# Altium footprint library Marvell.PcbLib: 1 footprints
Each footprint in its own frame and in the unit in brackets; x right, y up, seen from the top. Pads: shape width x height; smd on the part's side, far side on the other; paste and mask are expansions set on the pad; w line width, h text height; cw(c..) or ccw(c..) is an arc to the next point about the centre after c.
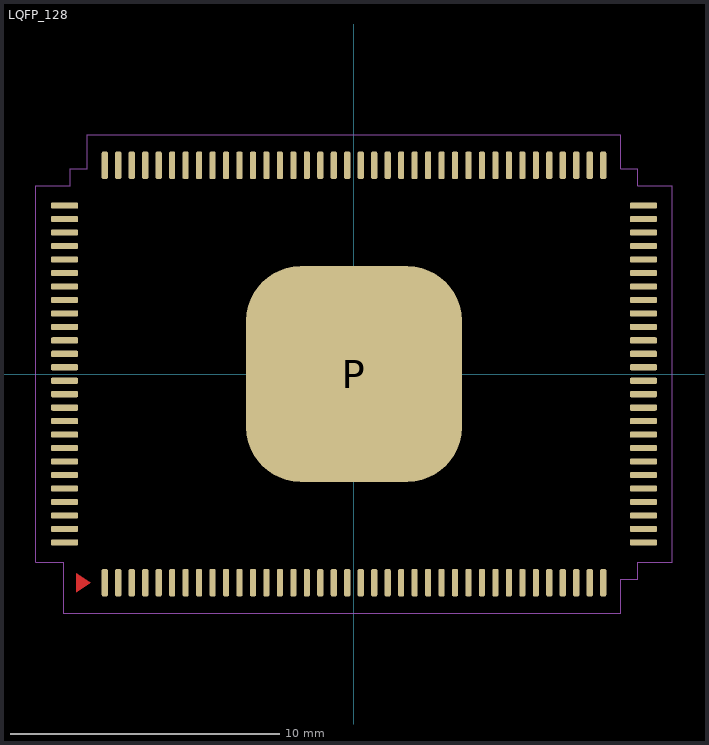
[diagram p0: the footprint, top view; thin cyan lines are the x and y axes]

## LQFP_128 [mil]
height 55.12
pads (129):
  rrect50% 9x40 smd mask+2: 1(-364.17,-305) 2(-344.49,-305) 3(-324.8,-305) 4(-305.12,-305) 5(-285.43,-305) 6(-265.75,-305) 7(-246.06,-305) 8(-226.38,-305) 9(-206.69,-305) 10(-187.01,-305) 11(-167.32,-305) 12(-147.64,-305) 13(-127.95,-305) 14(-108.27,-305) 15(-88.58,-305) 16(-68.9,-305) 17(-49.21,-305) 18(-29.53,-305) 19(-9.84,-305) 20(9.84,-305) 21(29.53,-305) 22(49.21,-305) 23(68.9,-305) 24(88.58,-305) 25(108.27,-305) 26(127.95,-305) 27(147.64,-305) 28(167.32,-305) 29(187.01,-305) 30(206.69,-305) 31(226.38,-305) 32(246.06,-305) 33(265.75,-305) 34(285.43,-305) 35(305.12,-305) 36(324.8,-305) 37(344.49,-305) 38(364.17,-305) 65(364.17,305) 66(344.49,305) 67(324.8,305) 68(305.12,305) 69(285.43,305) 70(265.75,305) 71(246.06,305) 72(226.38,305) 73(206.69,305) 74(187.01,305) 75(167.32,305) 76(147.64,305) 77(127.95,305) 78(108.27,305) 79(88.58,305) 80(68.9,305) 81(49.21,305) 82(29.53,305) 83(9.84,305) 84(-9.84,305) 85(-29.53,305) 86(-49.21,305) 87(-68.9,305) 88(-88.58,305) 89(-108.27,305) 90(-127.95,305) 91(-147.64,305) 92(-167.32,305) 93(-187.01,305) 94(-206.69,305) 95(-226.38,305) 96(-246.06,305) 97(-265.75,305) 98(-285.43,305) 99(-305.12,305) 100(-324.8,305) 101(-344.49,305) 102(-364.17,305)
  rrect50% 40x9 smd mask+2: 39(423,-246.06) 40(423,-226.38) 41(423,-206.69) 42(423,-187.01) 43(423,-167.32) 44(423,-147.64) 45(423,-127.95) 46(423,-108.27) 47(423,-88.58) 48(423,-68.9) 49(423,-49.21) 50(423,-29.53) 51(423,-9.84) 52(423,9.84) 53(423,29.53) 54(423,49.21) 55(423,68.9) 56(423,88.58) 57(423,108.27) 58(423,127.95) 59(423,147.64) 60(423,167.32) 61(423,187.01) 62(423,206.69) 63(423,226.38) 64(423,246.06) 103(-423,246.06) 104(-423,226.38) 105(-423,206.69) 106(-423,187.01) 107(-423,167.32) 108(-423,147.64) 109(-423,127.95) 110(-423,108.27) 111(-423,88.58) 112(-423,68.9) 113(-423,49.21) 114(-423,29.53) 115(-423,9.84) 116(-423,-9.84) 117(-423,-29.53) 118(-423,-49.21) 119(-423,-68.9) 120(-423,-88.58) 121(-423,-108.27) 122(-423,-127.95) 123(-423,-147.64) 124(-423,-167.32) 125(-423,-187.01) 126(-423,-206.69) 127(-423,-226.38) 128(-423,-246.06)
  rrect50% 314.96x314.96 smd paste-800 mask+2: P(0,0)
Top Layer:
  region: -385,-305 -406.21,-290.86 -406.21,-319.14
Top Paste:
  rectangle: -20,-20 20,20
  rectangle: 30,-20 70,20
  rectangle: 30,-70 70,-30
  rectangle: -20,-70 20,-30
  region: 70,30 70,70 30,70 30,30
  region: -30,70 -70,70 -70,30 -30,30
  region: -70,-30 -70,-70 -30,-70 -30,-30
  region: 20,70 -20,70 -20,30 20,30
  region: -70,20 -70,-20 -30,-20 -30,20
  region: 120,30 120,70 80,70 80,30
  rectangle: 80,-70 120,-30
  rectangle: 80,-20 120,20
  region: 120,80 120,120 80,120 80,80
  region: 20,120 -20,120 -20,80 20,80
  region: -30,120 -70,120 -70,80 -30,80
  region: 70,80 70,120 30,120 30,80
  rectangle: 80,-120 120,-80
  region: -70,-80 -70,-120 -30,-120 -30,-80
  rectangle: -20,-120 20,-80
  rectangle: 30,-120 70,-80
  region: -120,-80 -120,-120 -80,-120 -80,-80
  region: -80,120 -120,120 -120,80 -80,80
  region: -120,20 -120,-20 -80,-20 -80,20
  region: -120,-30 -120,-70 -80,-70 -80,-30
  region: -80,70 -120,70 -120,30 -80,30
  region: 70,130 70,155 30,155 30,130
  region: -30,155 -70,155 -70,130 -30,130
  region: 20,155 -20,155 -20,130 20,130
  region: -155,20 -155,-20 -130,-20 -130,20
  region: -155,-30 -155,-70 -130,-70 -130,-30
  region: -130,70 -155,70 -155,30 -130,30
  rectangle: -20,-155 20,-130
  rectangle: 30,-155 70,-130
  region: -70,-130 -70,-155 -30,-155 -30,-130
  region: 155,-20 155,20 130,20 130,-20
  region: 155,30 155,70 130,70 130,30
  rectangle: 130,-70 155,-30
Top Component Outline:
  lines w1: -465,-275 -465,275 -415,275 -415,300 -390,300 -390,350 390,350 390,300 415,300 415,275 465,275 465,-275 415,-275 415,-300 390,-300 390,-350 -425,-350 -425,-275 -465,-275
3D body: height 30, standoff 24, extent 390.96,-33.53 407.96,-25.53
3D body: height 30, standoff 0, extent 407.96,-33.53 417.96,-25.53
3D body: height 6, standoff 0, extent 417.96,-33.53 432.96,-25.53
3D body: height 30, standoff 24, extent 390.96,-53.21 407.96,-45.21
3D body: height 30, standoff 0, extent 407.96,-53.21 417.96,-45.21
3D body: height 6, standoff 0, extent 417.96,-53.21 432.96,-45.21
3D body: height 30, standoff 24, extent 390.96,-72.9 407.96,-64.9
3D body: height 30, standoff 0, extent 407.96,-72.9 417.96,-64.9
3D body: height 6, standoff 0, extent 417.96,-72.9 432.96,-64.9
3D body: height 30, standoff 24, extent 390.96,-92.58 407.96,-84.58
3D body: height 30, standoff 0, extent 407.96,-92.58 417.96,-84.58
3D body: height 6, standoff 0, extent 417.96,-92.58 432.96,-84.58
3D body: height 30, standoff 24, extent 390.96,84.58 407.96,92.58
3D body: height 30, standoff 0, extent 407.96,84.58 417.96,92.58
3D body: height 6, standoff 0, extent 417.96,84.58 432.96,92.58
3D body: height 30, standoff 24, extent 390.96,64.9 407.96,72.9
3D body: height 30, standoff 0, extent 407.96,64.9 417.96,72.9
3D body: height 6, standoff 0, extent 417.96,64.9 432.96,72.9
3D body: height 30, standoff 24, extent 390.96,45.21 407.96,53.21
3D body: height 30, standoff 0, extent 407.96,45.21 417.96,53.21
3D body: height 6, standoff 0, extent 417.96,45.21 432.96,53.21
3D body: height 30, standoff 24, extent 390.96,25.53 407.96,33.53
3D body: height 30, standoff 0, extent 407.96,25.53 417.96,33.53
3D body: height 6, standoff 0, extent 417.96,25.53 432.96,33.53
3D body: height 30, standoff 24, extent 390.96,5.84 407.96,13.84
3D body: height 30, standoff 0, extent 407.96,5.84 417.96,13.84
3D body: height 6, standoff 0, extent 417.96,5.84 432.96,13.84
3D body: height 6, standoff 0, extent 417.96,-13.84 432.96,-5.84
3D body: height 30, standoff 0, extent 407.96,-13.84 417.96,-5.84
3D body: height 30, standoff 24, extent 390.96,-13.84 407.96,-5.84
3D body: height 30, standoff 24, extent 390.96,202.69 407.96,210.69
3D body: height 30, standoff 0, extent 407.96,202.69 417.96,210.69
3D body: height 6, standoff 0, extent 417.96,202.69 432.96,210.69
3D body: height 30, standoff 24, extent 390.96,183.01 407.96,191.01
3D body: height 30, standoff 0, extent 407.96,183.01 417.96,191.01
3D body: height 6, standoff 0, extent 417.96,183.01 432.96,191.01
3D body: height 30, standoff 24, extent 390.96,163.32 407.96,171.32
3D body: height 30, standoff 0, extent 407.96,163.32 417.96,171.32
3D body: height 6, standoff 0, extent 417.96,163.32 432.96,171.32
3D body: height 30, standoff 24, extent 390.96,143.64 407.96,151.64
3D body: height 30, standoff 0, extent 407.96,143.64 417.96,151.64
3D body: height 6, standoff 0, extent 417.96,143.64 432.96,151.64
3D body: height 30, standoff 24, extent 390.96,123.95 407.96,131.95
3D body: height 30, standoff 0, extent 407.96,123.95 417.96,131.95
3D body: height 6, standoff 0, extent 417.96,123.95 432.96,131.95
3D body: height 6, standoff 0, extent 417.96,104.27 432.96,112.27
3D body: height 30, standoff 0, extent 407.96,104.27 417.96,112.27
3D body: height 30, standoff 24, extent 390.96,104.27 407.96,112.27
3D body: height 6, standoff 0, extent 417.96,222.38 432.96,230.38
3D body: height 30, standoff 0, extent 407.96,222.38 417.96,230.38
3D body: height 30, standoff 24, extent 390.96,222.38 407.96,230.38
3D body: height 6, standoff 0, extent 417.96,242.06 432.96,250.06
3D body: height 30, standoff 0, extent 407.96,242.06 417.96,250.06
3D body: height 30, standoff 24, extent 390.96,242.06 407.96,250.06
3D body: height 30, standoff 24, extent 390.96,-151.64 407.96,-143.64
3D body: height 30, standoff 0, extent 407.96,-151.64 417.96,-143.64
3D body: height 6, standoff 0, extent 417.96,-151.64 432.96,-143.64
3D body: height 6, standoff 0, extent 417.96,-131.95 432.96,-123.95
3D body: height 30, standoff 0, extent 407.96,-131.95 417.96,-123.95
3D body: height 30, standoff 24, extent 390.96,-131.95 407.96,-123.95
3D body: height 6, standoff 0, extent 417.96,-112.27 432.96,-104.27
3D body: height 30, standoff 0, extent 407.96,-112.27 417.96,-104.27
3D body: height 30, standoff 24, extent 390.96,-112.27 407.96,-104.27
3D body: height 6, standoff 0, extent 417.96,-230.38 432.96,-222.38
3D body: height 30, standoff 0, extent 407.96,-230.38 417.96,-222.38
3D body: height 30, standoff 24, extent 390.96,-230.38 407.96,-222.38
3D body: height 6, standoff 0, extent 417.96,-210.69 432.96,-202.69
3D body: height 30, standoff 0, extent 407.96,-210.69 417.96,-202.69
3D body: height 30, standoff 24, extent 390.96,-210.69 407.96,-202.69
3D body: height 6, standoff 0, extent 417.96,-191.01 432.96,-183.01
3D body: height 30, standoff 0, extent 407.96,-191.01 417.96,-183.01
3D body: height 30, standoff 24, extent 390.96,-191.01 407.96,-183.01
3D body: height 6, standoff 0, extent 417.96,-171.32 432.96,-163.32
3D body: height 30, standoff 0, extent 407.96,-171.32 417.96,-163.32
3D body: height 30, standoff 24, extent 390.96,-171.32 407.96,-163.32
3D body: height 30, standoff 24, extent 390.96,-250.06 407.96,-242.06
3D body: height 30, standoff 0, extent 407.96,-250.06 417.96,-242.06
3D body: height 6, standoff 0, extent 417.96,-250.06 432.96,-242.06
3D body: height 6, standoff 0, extent -432.96,242.06 -417.96,250.06
3D body: height 30, standoff 0, extent -417.96,242.06 -407.96,250.06
3D body: height 30, standoff 24, extent -407.96,242.06 -390.96,250.06
3D body: height 30, standoff 24, extent -407.96,163.32 -390.96,171.32
3D body: height 30, standoff 0, extent -417.96,163.32 -407.96,171.32
3D body: height 6, standoff 0, extent -432.96,163.32 -417.96,171.32
3D body: height 30, standoff 24, extent -407.96,183.01 -390.96,191.01
3D body: height 30, standoff 0, extent -417.96,183.01 -407.96,191.01
3D body: height 6, standoff 0, extent -432.96,183.01 -417.96,191.01
3D body: height 30, standoff 24, extent -407.96,202.69 -390.96,210.69
3D body: height 30, standoff 0, extent -417.96,202.69 -407.96,210.69
3D body: height 6, standoff 0, extent -432.96,202.69 -417.96,210.69
3D body: height 30, standoff 24, extent -407.96,222.38 -390.96,230.38
3D body: height 30, standoff 0, extent -417.96,222.38 -407.96,230.38
3D body: height 6, standoff 0, extent -432.96,222.38 -417.96,230.38
3D body: height 30, standoff 24, extent -407.96,104.27 -390.96,112.27
3D body: height 30, standoff 0, extent -417.96,104.27 -407.96,112.27
3D body: height 6, standoff 0, extent -432.96,104.27 -417.96,112.27
3D body: height 30, standoff 24, extent -407.96,123.95 -390.96,131.95
3D body: height 30, standoff 0, extent -417.96,123.95 -407.96,131.95
3D body: height 6, standoff 0, extent -432.96,123.95 -417.96,131.95
3D body: height 6, standoff 0, extent -432.96,143.64 -417.96,151.64
3D body: height 30, standoff 0, extent -417.96,143.64 -407.96,151.64
3D body: height 30, standoff 24, extent -407.96,143.64 -390.96,151.64
3D body: height 30, standoff 24, extent -407.96,-250.06 -390.96,-242.06
3D body: height 30, standoff 0, extent -417.96,-250.06 -407.96,-242.06
3D body: height 6, standoff 0, extent -432.96,-250.06 -417.96,-242.06
3D body: height 30, standoff 24, extent -407.96,-230.38 -390.96,-222.38
3D body: height 30, standoff 0, extent -417.96,-230.38 -407.96,-222.38
3D body: height 6, standoff 0, extent -432.96,-230.38 -417.96,-222.38
3D body: height 30, standoff 24, extent -407.96,-112.27 -390.96,-104.27
3D body: height 30, standoff 0, extent -417.96,-112.27 -407.96,-104.27
3D body: height 6, standoff 0, extent -432.96,-112.27 -417.96,-104.27
3D body: height 6, standoff 0, extent -432.96,-131.95 -417.96,-123.95
3D body: height 30, standoff 0, extent -417.96,-131.95 -407.96,-123.95
3D body: height 30, standoff 24, extent -407.96,-131.95 -390.96,-123.95
3D body: height 6, standoff 0, extent -432.96,-151.64 -417.96,-143.64
3D body: height 30, standoff 0, extent -417.96,-151.64 -407.96,-143.64
3D body: height 30, standoff 24, extent -407.96,-151.64 -390.96,-143.64
3D body: height 6, standoff 0, extent -432.96,-171.32 -417.96,-163.32
3D body: height 30, standoff 0, extent -417.96,-171.32 -407.96,-163.32
3D body: height 30, standoff 24, extent -407.96,-171.32 -390.96,-163.32
3D body: height 6, standoff 0, extent -432.96,-191.01 -417.96,-183.01
3D body: height 30, standoff 0, extent -417.96,-191.01 -407.96,-183.01
3D body: height 30, standoff 24, extent -407.96,-191.01 -390.96,-183.01
3D body: height 6, standoff 0, extent -432.96,-210.69 -417.96,-202.69
3D body: height 30, standoff 0, extent -417.96,-210.69 -407.96,-202.69
3D body: height 30, standoff 24, extent -407.96,-210.69 -390.96,-202.69
3D body: height 30, standoff 24, extent -407.96,5.84 -390.96,13.84
3D body: height 30, standoff 0, extent -417.96,5.84 -407.96,13.84
3D body: height 6, standoff 0, extent -432.96,5.84 -417.96,13.84
3D body: height 6, standoff 0, extent -432.96,-13.84 -417.96,-5.84
3D body: height 30, standoff 0, extent -417.96,-13.84 -407.96,-5.84
3D body: height 30, standoff 24, extent -407.96,-13.84 -390.96,-5.84
3D body: height 6, standoff 0, extent -432.96,-33.53 -417.96,-25.53
3D body: height 30, standoff 0, extent -417.96,-33.53 -407.96,-25.53
3D body: height 30, standoff 24, extent -407.96,-33.53 -390.96,-25.53
3D body: height 6, standoff 0, extent -432.96,-53.21 -417.96,-45.21
3D body: height 30, standoff 0, extent -417.96,-53.21 -407.96,-45.21
3D body: height 30, standoff 24, extent -407.96,-53.21 -390.96,-45.21
3D body: height 6, standoff 0, extent -432.96,-72.9 -417.96,-64.9
3D body: height 30, standoff 0, extent -417.96,-72.9 -407.96,-64.9
3D body: height 30, standoff 24, extent -407.96,-72.9 -390.96,-64.9
3D body: height 6, standoff 0, extent -432.96,-92.58 -417.96,-84.58
3D body: height 30, standoff 0, extent -417.96,-92.58 -407.96,-84.58
3D body: height 30, standoff 24, extent -407.96,-92.58 -390.96,-84.58
3D body: height 6, standoff 0, extent -432.96,84.58 -417.96,92.58
3D body: height 30, standoff 0, extent -417.96,84.58 -407.96,92.58
3D body: height 30, standoff 24, extent -407.96,84.58 -390.96,92.58
3D body: height 6, standoff 0, extent -432.96,64.9 -417.96,72.9
3D body: height 30, standoff 0, extent -417.96,64.9 -407.96,72.9
3D body: height 30, standoff 24, extent -407.96,64.9 -390.96,72.9
3D body: height 6, standoff 0, extent -432.96,45.21 -417.96,53.21
3D body: height 30, standoff 0, extent -417.96,45.21 -407.96,53.21
3D body: height 30, standoff 24, extent -407.96,45.21 -390.96,53.21
3D body: height 6, standoff 0, extent -432.96,25.53 -417.96,33.53
3D body: height 30, standoff 0, extent -417.96,25.53 -407.96,33.53
3D body: height 30, standoff 24, extent -407.96,25.53 -390.96,33.53
3D body: height 30, standoff 24, extent 360.17,272.96 368.17,289.96
3D body: height 30, standoff 0, extent 360.17,289.96 368.17,299.96
3D body: height 6, standoff 0, extent 360.17,299.96 368.17,314.96
3D body: height 6, standoff 0, extent 340.49,299.96 348.49,314.96
3D body: height 30, standoff 0, extent 340.49,289.96 348.49,299.96
3D body: height 30, standoff 24, extent 340.49,272.96 348.49,289.96
3D body: height 6, standoff 0, extent 320.8,299.96 328.8,314.96
3D body: height 30, standoff 0, extent 320.8,289.96 328.8,299.96
3D body: height 30, standoff 24, extent 320.8,272.96 328.8,289.96
3D body: height 6, standoff 0, extent 301.12,299.96 309.12,314.96
3D body: height 30, standoff 0, extent 301.12,289.96 309.12,299.96
3D body: height 30, standoff 24, extent 301.12,272.96 309.12,289.96
3D body: height 6, standoff 0, extent 281.43,299.96 289.43,314.96
3D body: height 30, standoff 0, extent 281.43,289.96 289.43,299.96
3D body: height 30, standoff 24, extent 281.43,272.96 289.43,289.96
3D body: height 6, standoff 0, extent 261.75,299.96 269.75,314.96
3D body: height 30, standoff 0, extent 261.75,289.96 269.75,299.96
3D body: height 30, standoff 24, extent 261.75,272.96 269.75,289.96
3D body: height 30, standoff 24, extent 143.64,272.96 151.64,289.96
3D body: height 30, standoff 0, extent 143.64,289.96 151.64,299.96
3D body: height 6, standoff 0, extent 143.64,299.96 151.64,314.96
3D body: height 30, standoff 24, extent 163.32,272.96 171.32,289.96
3D body: height 30, standoff 0, extent 163.32,289.96 171.32,299.96
3D body: height 6, standoff 0, extent 163.32,299.96 171.32,314.96
3D body: height 30, standoff 24, extent 183.01,272.96 191.01,289.96
3D body: height 30, standoff 0, extent 183.01,289.96 191.01,299.96
3D body: height 6, standoff 0, extent 183.01,299.96 191.01,314.96
3D body: height 30, standoff 24, extent 202.69,272.96 210.69,289.96
3D body: height 30, standoff 0, extent 202.69,289.96 210.69,299.96
3D body: height 6, standoff 0, extent 202.69,299.96 210.69,314.96
3D body: height 30, standoff 24, extent 222.38,272.96 230.38,289.96
3D body: height 30, standoff 0, extent 222.38,289.96 230.38,299.96
3D body: height 6, standoff 0, extent 222.38,299.96 230.38,314.96
3D body: height 6, standoff 0, extent 242.06,299.96 250.06,314.96
3D body: height 30, standoff 0, extent 242.06,289.96 250.06,299.96
3D body: height 30, standoff 24, extent 242.06,272.96 250.06,289.96
3D body: height 30, standoff 24, extent 25.53,272.96 33.53,289.96
3D body: height 30, standoff 0, extent 25.53,289.96 33.53,299.96
3D body: height 6, standoff 0, extent 25.53,299.96 33.53,314.96
3D body: height 30, standoff 24, extent 45.21,272.96 53.21,289.96
3D body: height 30, standoff 0, extent 45.21,289.96 53.21,299.96
3D body: height 6, standoff 0, extent 45.21,299.96 53.21,314.96
3D body: height 30, standoff 24, extent 64.9,272.96 72.9,289.96
3D body: height 30, standoff 0, extent 64.9,289.96 72.9,299.96
3D body: height 6, standoff 0, extent 64.9,299.96 72.9,314.96
3D body: height 30, standoff 24, extent 84.58,272.96 92.58,289.96
3D body: height 30, standoff 0, extent 84.58,289.96 92.58,299.96
3D body: height 6, standoff 0, extent 84.58,299.96 92.58,314.96
3D body: height 30, standoff 24, extent 104.27,272.96 112.27,289.96
3D body: height 30, standoff 0, extent 104.27,289.96 112.27,299.96
3D body: height 6, standoff 0, extent 104.27,299.96 112.27,314.96
3D body: height 6, standoff 0, extent 123.95,299.96 131.95,314.96
3D body: height 30, standoff 0, extent 123.95,289.96 131.95,299.96
3D body: height 30, standoff 24, extent 123.95,272.96 131.95,289.96
3D body: height 30, standoff 24, extent -92.58,272.96 -84.58,289.96
3D body: height 30, standoff 0, extent -92.58,289.96 -84.58,299.96
3D body: height 6, standoff 0, extent -92.58,299.96 -84.58,314.96
3D body: height 30, standoff 24, extent -72.9,272.96 -64.9,289.96
3D body: height 30, standoff 0, extent -72.9,289.96 -64.9,299.96
3D body: height 6, standoff 0, extent -72.9,299.96 -64.9,314.96
3D body: height 30, standoff 24, extent -53.21,272.96 -45.21,289.96
3D body: height 30, standoff 0, extent -53.21,289.96 -45.21,299.96
3D body: height 6, standoff 0, extent -53.21,299.96 -45.21,314.96
3D body: height 30, standoff 24, extent -33.53,272.96 -25.53,289.96
3D body: height 30, standoff 0, extent -33.53,289.96 -25.53,299.96
3D body: height 6, standoff 0, extent -33.53,299.96 -25.53,314.96
3D body: height 30, standoff 24, extent -13.84,272.96 -5.84,289.96
3D body: height 30, standoff 0, extent -13.84,289.96 -5.84,299.96
3D body: height 6, standoff 0, extent -13.84,299.96 -5.84,314.96
3D body: height 6, standoff 0, extent 5.84,299.96 13.84,314.96
3D body: height 30, standoff 0, extent 5.84,289.96 13.84,299.96
3D body: height 30, standoff 24, extent 5.84,272.96 13.84,289.96
3D body: height 30, standoff 24, extent -210.69,272.96 -202.69,289.96
3D body: height 30, standoff 0, extent -210.69,289.96 -202.69,299.96
3D body: height 6, standoff 0, extent -210.69,299.96 -202.69,314.96
3D body: height 30, standoff 24, extent -191.01,272.96 -183.01,289.96
3D body: height 30, standoff 0, extent -191.01,289.96 -183.01,299.96
3D body: height 6, standoff 0, extent -191.01,299.96 -183.01,314.96
3D body: height 30, standoff 24, extent -171.32,272.96 -163.32,289.96
3D body: height 30, standoff 0, extent -171.32,289.96 -163.32,299.96
3D body: height 6, standoff 0, extent -171.32,299.96 -163.32,314.96
3D body: height 30, standoff 24, extent -151.64,272.96 -143.64,289.96
3D body: height 30, standoff 0, extent -151.64,289.96 -143.64,299.96
3D body: height 6, standoff 0, extent -151.64,299.96 -143.64,314.96
3D body: height 30, standoff 24, extent -131.95,272.96 -123.95,289.96
3D body: height 30, standoff 0, extent -131.95,289.96 -123.95,299.96
3D body: height 6, standoff 0, extent -131.95,299.96 -123.95,314.96
3D body: height 6, standoff 0, extent -112.27,299.96 -104.27,314.96
3D body: height 30, standoff 0, extent -112.27,289.96 -104.27,299.96
3D body: height 30, standoff 24, extent -112.27,272.96 -104.27,289.96
3D body: height 30, standoff 24, extent -328.8,272.96 -320.8,289.96
3D body: height 30, standoff 0, extent -328.8,289.96 -320.8,299.96
3D body: height 6, standoff 0, extent -328.8,299.96 -320.8,314.96
3D body: height 30, standoff 24, extent -309.12,272.96 -301.12,289.96
3D body: height 30, standoff 0, extent -309.12,289.96 -301.12,299.96
3D body: height 6, standoff 0, extent -309.12,299.96 -301.12,314.96
3D body: height 30, standoff 24, extent -289.43,272.96 -281.43,289.96
3D body: height 30, standoff 0, extent -289.43,289.96 -281.43,299.96
3D body: height 6, standoff 0, extent -289.43,299.96 -281.43,314.96
3D body: height 30, standoff 24, extent -269.75,272.96 -261.75,289.96
3D body: height 30, standoff 0, extent -269.75,289.96 -261.75,299.96
3D body: height 6, standoff 0, extent -269.75,299.96 -261.75,314.96
3D body: height 30, standoff 24, extent -250.06,272.96 -242.06,289.96
3D body: height 30, standoff 0, extent -250.06,289.96 -242.06,299.96
3D body: height 6, standoff 0, extent -250.06,299.96 -242.06,314.96
3D body: height 6, standoff 0, extent -230.38,299.96 -222.38,314.96
3D body: height 30, standoff 0, extent -230.38,289.96 -222.38,299.96
3D body: height 30, standoff 24, extent -230.38,272.96 -222.38,289.96
3D body: height 6, standoff 0, extent -348.49,299.96 -340.49,314.96
3D body: height 30, standoff 0, extent -348.49,289.96 -340.49,299.96
3D body: height 30, standoff 24, extent -348.49,272.96 -340.49,289.96
3D body: height 6, standoff 0, extent -368.17,299.96 -360.17,314.96
3D body: height 30, standoff 0, extent -368.17,289.96 -360.17,299.96
3D body: height 30, standoff 24, extent -368.17,272.96 -360.17,289.96
3D body: height 30, standoff 24, extent 360.17,-289.96 368.17,-272.96
3D body: height 30, standoff 0, extent 360.17,-299.96 368.17,-289.96
3D body: height 6, standoff 0, extent 360.17,-314.96 368.17,-299.96
3D body: height 30, standoff 24, extent 340.49,-289.96 348.49,-272.96
3D body: height 30, standoff 0, extent 340.49,-299.96 348.49,-289.96
3D body: height 6, standoff 0, extent 340.49,-314.96 348.49,-299.96
3D body: height 30, standoff 24, extent 222.38,-289.96 230.38,-272.96
3D body: height 30, standoff 0, extent 222.38,-299.96 230.38,-289.96
3D body: height 6, standoff 0, extent 222.38,-314.96 230.38,-299.96
3D body: height 6, standoff 0, extent 242.06,-314.96 250.06,-299.96
3D body: height 30, standoff 0, extent 242.06,-299.96 250.06,-289.96
3D body: height 30, standoff 24, extent 242.06,-289.96 250.06,-272.96
3D body: height 6, standoff 0, extent 261.75,-314.96 269.75,-299.96
3D body: height 30, standoff 0, extent 261.75,-299.96 269.75,-289.96
3D body: height 30, standoff 24, extent 261.75,-289.96 269.75,-272.96
3D body: height 6, standoff 0, extent 281.43,-314.96 289.43,-299.96
3D body: height 30, standoff 0, extent 281.43,-299.96 289.43,-289.96
3D body: height 30, standoff 24, extent 281.43,-289.96 289.43,-272.96
3D body: height 6, standoff 0, extent 301.12,-314.96 309.12,-299.96
3D body: height 30, standoff 0, extent 301.12,-299.96 309.12,-289.96
3D body: height 30, standoff 24, extent 301.12,-289.96 309.12,-272.96
3D body: height 6, standoff 0, extent 320.8,-314.96 328.8,-299.96
3D body: height 30, standoff 0, extent 320.8,-299.96 328.8,-289.96
3D body: height 30, standoff 24, extent 320.8,-289.96 328.8,-272.96
3D body: height 30, standoff 24, extent 104.27,-289.96 112.27,-272.96
3D body: height 30, standoff 0, extent 104.27,-299.96 112.27,-289.96
3D body: height 6, standoff 0, extent 104.27,-314.96 112.27,-299.96
3D body: height 6, standoff 0, extent 123.95,-314.96 131.95,-299.96
3D body: height 30, standoff 0, extent 123.95,-299.96 131.95,-289.96
3D body: height 30, standoff 24, extent 123.95,-289.96 131.95,-272.96
3D body: height 6, standoff 0, extent 143.64,-314.96 151.64,-299.96
3D body: height 30, standoff 0, extent 143.64,-299.96 151.64,-289.96
3D body: height 30, standoff 24, extent 143.64,-289.96 151.64,-272.96
3D body: height 6, standoff 0, extent 163.32,-314.96 171.32,-299.96
3D body: height 30, standoff 0, extent 163.32,-299.96 171.32,-289.96
3D body: height 30, standoff 24, extent 163.32,-289.96 171.32,-272.96
3D body: height 6, standoff 0, extent 183.01,-314.96 191.01,-299.96
3D body: height 30, standoff 0, extent 183.01,-299.96 191.01,-289.96
3D body: height 30, standoff 24, extent 183.01,-289.96 191.01,-272.96
3D body: height 6, standoff 0, extent 202.69,-314.96 210.69,-299.96
3D body: height 30, standoff 0, extent 202.69,-299.96 210.69,-289.96
3D body: height 30, standoff 24, extent 202.69,-289.96 210.69,-272.96
3D body: height 30, standoff 24, extent -13.84,-289.96 -5.84,-272.96
3D body: height 30, standoff 0, extent -13.84,-299.96 -5.84,-289.96
3D body: height 6, standoff 0, extent -13.84,-314.96 -5.84,-299.96
3D body: height 6, standoff 0, extent 5.84,-314.96 13.84,-299.96
3D body: height 30, standoff 0, extent 5.84,-299.96 13.84,-289.96
3D body: height 30, standoff 24, extent 5.84,-289.96 13.84,-272.96
3D body: height 6, standoff 0, extent 25.53,-314.96 33.53,-299.96
3D body: height 30, standoff 0, extent 25.53,-299.96 33.53,-289.96
3D body: height 30, standoff 24, extent 25.53,-289.96 33.53,-272.96
3D body: height 6, standoff 0, extent 45.21,-314.96 53.21,-299.96
3D body: height 30, standoff 0, extent 45.21,-299.96 53.21,-289.96
3D body: height 30, standoff 24, extent 45.21,-289.96 53.21,-272.96
3D body: height 6, standoff 0, extent 64.9,-314.96 72.9,-299.96
3D body: height 30, standoff 0, extent 64.9,-299.96 72.9,-289.96
3D body: height 30, standoff 24, extent 64.9,-289.96 72.9,-272.96
3D body: height 6, standoff 0, extent 84.58,-314.96 92.58,-299.96
3D body: height 30, standoff 0, extent 84.58,-299.96 92.58,-289.96
3D body: height 30, standoff 24, extent 84.58,-289.96 92.58,-272.96
3D body: height 30, standoff 24, extent -131.95,-289.96 -123.95,-272.96
3D body: height 30, standoff 0, extent -131.95,-299.96 -123.95,-289.96
3D body: height 6, standoff 0, extent -131.95,-314.96 -123.95,-299.96
3D body: height 6, standoff 0, extent -112.27,-314.96 -104.27,-299.96
3D body: height 30, standoff 0, extent -112.27,-299.96 -104.27,-289.96
3D body: height 30, standoff 24, extent -112.27,-289.96 -104.27,-272.96
3D body: height 6, standoff 0, extent -92.58,-314.96 -84.58,-299.96
3D body: height 30, standoff 0, extent -92.58,-299.96 -84.58,-289.96
3D body: height 30, standoff 24, extent -92.58,-289.96 -84.58,-272.96
3D body: height 6, standoff 0, extent -72.9,-314.96 -64.9,-299.96
3D body: height 30, standoff 0, extent -72.9,-299.96 -64.9,-289.96
3D body: height 30, standoff 24, extent -72.9,-289.96 -64.9,-272.96
3D body: height 6, standoff 0, extent -53.21,-314.96 -45.21,-299.96
3D body: height 30, standoff 0, extent -53.21,-299.96 -45.21,-289.96
3D body: height 30, standoff 24, extent -53.21,-289.96 -45.21,-272.96
3D body: height 6, standoff 0, extent -33.53,-314.96 -25.53,-299.96
3D body: height 30, standoff 0, extent -33.53,-299.96 -25.53,-289.96
3D body: height 30, standoff 24, extent -33.53,-289.96 -25.53,-272.96
3D body: height 30, standoff 24, extent -250.06,-289.96 -242.06,-272.96
3D body: height 30, standoff 0, extent -250.06,-299.96 -242.06,-289.96
3D body: height 6, standoff 0, extent -250.06,-314.96 -242.06,-299.96
3D body: height 6, standoff 0, extent -230.38,-314.96 -222.38,-299.96
3D body: height 30, standoff 0, extent -230.38,-299.96 -222.38,-289.96
3D body: height 30, standoff 24, extent -230.38,-289.96 -222.38,-272.96
3D body: height 6, standoff 0, extent -210.69,-314.96 -202.69,-299.96
3D body: height 30, standoff 0, extent -210.69,-299.96 -202.69,-289.96
3D body: height 30, standoff 24, extent -210.69,-289.96 -202.69,-272.96
3D body: height 6, standoff 0, extent -191.01,-314.96 -183.01,-299.96
3D body: height 30, standoff 0, extent -191.01,-299.96 -183.01,-289.96
3D body: height 30, standoff 24, extent -191.01,-289.96 -183.01,-272.96
3D body: height 6, standoff 0, extent -171.32,-314.96 -163.32,-299.96
3D body: height 30, standoff 0, extent -171.32,-299.96 -163.32,-289.96
3D body: height 30, standoff 24, extent -171.32,-289.96 -163.32,-272.96
3D body: height 6, standoff 0, extent -151.64,-314.96 -143.64,-299.96
3D body: height 30, standoff 0, extent -151.64,-299.96 -143.64,-289.96
3D body: height 30, standoff 24, extent -151.64,-289.96 -143.64,-272.96
3D body: height 30, standoff 24, extent -269.75,-289.96 -261.75,-272.96
3D body: height 30, standoff 0, extent -269.75,-299.96 -261.75,-289.96
3D body: height 6, standoff 0, extent -269.75,-314.96 -261.75,-299.96
3D body: height 30, standoff 24, extent -289.43,-289.96 -281.43,-272.96
3D body: height 30, standoff 0, extent -289.43,-299.96 -281.43,-289.96
3D body: height 6, standoff 0, extent -289.43,-314.96 -281.43,-299.96
3D body: height 30, standoff 24, extent -309.12,-289.96 -301.12,-272.96
3D body: height 30, standoff 0, extent -309.12,-299.96 -301.12,-289.96
3D body: height 6, standoff 0, extent -309.12,-314.96 -301.12,-299.96
3D body: height 30, standoff 24, extent -328.8,-289.96 -320.8,-272.96
3D body: height 30, standoff 0, extent -328.8,-299.96 -320.8,-289.96
3D body: height 6, standoff 0, extent -328.8,-314.96 -320.8,-299.96
3D body: height 30, standoff 24, extent -348.49,-289.96 -340.49,-272.96
3D body: height 30, standoff 0, extent -348.49,-299.96 -340.49,-289.96
3D body: height 6, standoff 0, extent -348.49,-314.96 -340.49,-299.96
3D body: height 6, standoff 0, extent -368.17,-314.96 -360.17,-299.96
3D body: height 30, standoff 0, extent -368.17,-299.96 -360.17,-289.96
3D body: height 30, standoff 24, extent -368.17,-289.96 -360.17,-272.96
3D body: height 62.99, standoff 0, extent -393.7,-275.59 393.7,275.59